# Altium footprint library INF-PG-TO252-3-11_A_L.PcbLib: 1 footprints
Each footprint in its own frame and in the unit in brackets; x right, y up, seen from the top. Pads: shape width x height; smd on the part's side, far side on the other; paste and mask are expansions set on the pad; w line width, h text height; cw(c..) or ccw(c..) is an arc to the next point about the centre after c.
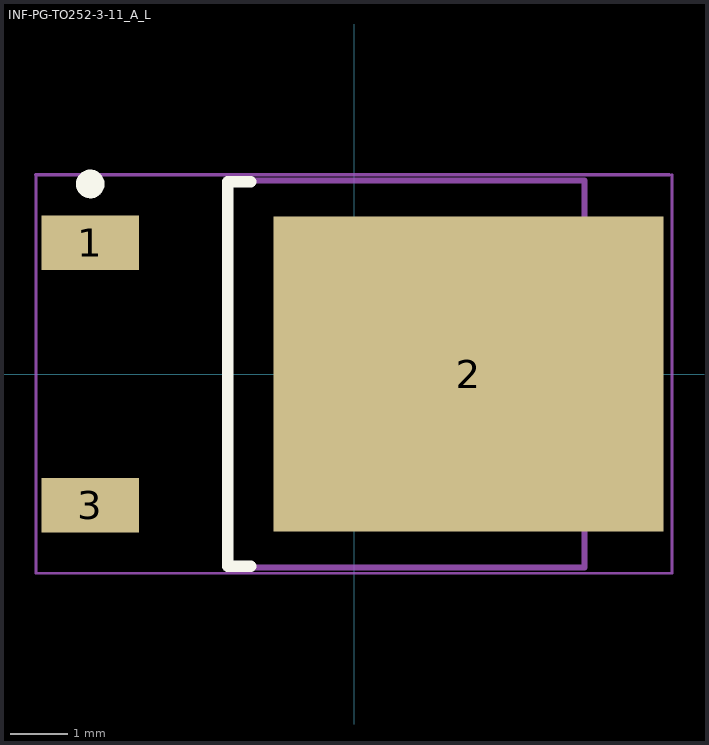
[diagram p0: the footprint, top view; thin cyan lines are the x and y axes]

## INF-PG-TO252-3-11_A_L [mm] "DPAK, 3-Leads, Body 6.57x6.1mm, Pitch 2.29mm, IPC High Density"
height 2.41
pads (3):
  rect 1.7x0.95 smd: 1(-4.6,2.29) 3(-4.6,-2.29)
  rect 6.8x5.5 smd: 2(2,0)
Top Overlay:
  circle w0.25: c-4.6,3.315 r0.125
  lines w0.2: -1.8,-3.35 -2.2,-3.35 -2.2,3.35 -1.8,3.35
Mechanical 13:
  lines w0.1: -2.2,-3.375 4.02,-3.375 4.02,3.375 -2.2,3.375 -2.2,-3.375
Mechanical 15:
  lines w0.05: -5.55,3.475 -5.55,-3.475 5.55,-3.475 5.55,3.475
  lines w0.055: -5.55,3.475 5.5,3.475
  lines w0.1: -0.5,0 0.5,0 ; 0,-0.5 0,0.5
3D body: height 2.41, standoff 0, extent -2.2,-3.375 4.02,3.375